# Altium schematic symbol library IRL520NPBF.SchLib: 1 symbol
Pins are listed as number, name and electrical type; pins without a type are passive.

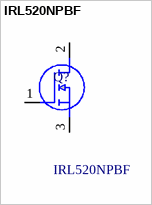
[diagram p0: symbol IRL520NPBF]

## IRL520NPBF
designator Q?
Infineon IRL520NPBF N-channel MOSFET, 10 A, 100 V LogicFET, 3-Pin TO-220AB; Geometry.Height: 4.69mm; Manufacturer_Name: Infineon; Manufacturer_Part_Number: IRL520NPBF; Mouser Part Number: 942-IRL520NPBF; Mouser Price/Stock: https://www.mouser.co.uk/ProductDetail/Infineon-Technologies/IRL520NPBF?qs=9%252BKlkBgLFf3eZ5ppEpIaKQ%3D%3D; Arrow Part Number: IRL520NPBF; Arrow Price/Stock: https://www.arrow.com/en/products/irl520npbf/infineon-technologies-ag?region=nac; Datasheet Link: https://www.infineon.com/dgdl/irl520npbf.pdf?fileId=5546d462533600a40153565f9b62255b
footprint TO254P469X1042X1967-3P
pins: 1 G, 2 D, 3 S